# Altium integrated library 0533980671.IntLib: 1 symbol
Pins are listed as number, name and electrical type; pins without a type are passive.

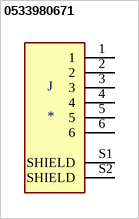
[diagram p0: symbol 0533980671]

## 0533980671
designator J
Picoblade Connector, 6 Circuit Single Row, Right Angle Surface Mount SMT PCB; MF: Molex; MP: 0533980671; SnapEDA_Link: https://www.snapeda.com/parts/0533980671/Molex/view-part/49734/?ref=snap; Availability: Unavailable; Value: *; Price: None; Package: None
footprint MOLEX_0533980671
pins: 1, 2, 3, 4, 5, 6, S1 SHIELD, S2 SHIELD